# EAGLE library part NHD-3.5-320240MF (library Custom)
Newhaven TFT LCD display NHD-3.5-320240MF 3.5" 320x240 RGB
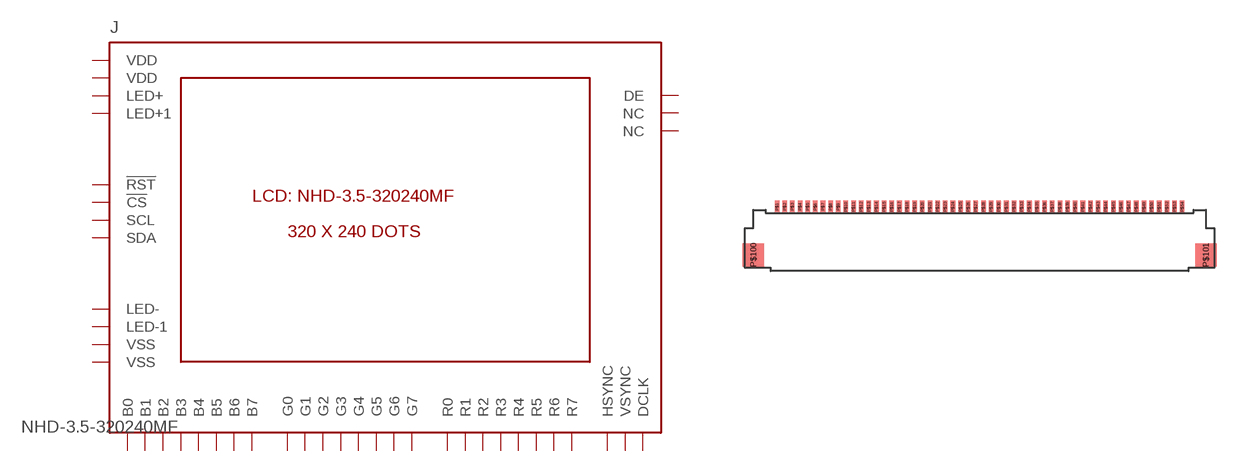
[diagram p4: symbol with the pads of MOLEX_51296-5494; footprint MOLEX_51296-5494]

Designator prefix J

## NHD-3.5-320240MF  [MOLEX_51296-5494]
P$1  LED-  pwr
P$2  LED-1  pwr
P$3  LED+  pwr
P$4  LED+1  pwr
P$8  !RST
P$9  !CS
P$10  SCL
P$11  SDA
P$12  B0
P$13  B1
P$14  B2
P$15  B3
P$16  B4
P$17  B5
P$18  B6
P$19  B7
P$20  G0
P$21  G1
P$22  G2
P$23  G3
P$24  G4
P$25  G5
P$26  G6
P$27  G7
P$28  R0
P$29  R1
P$30  R2
P$31  R3
P$32  R4
P$33  R5
P$34  R6
P$35  R7
P$36  HSYNC
P$37  VSYNC
P$38  DCLK
P$41  VDD  pwr
P$42  VDD  pwr
P$50  NC
P$51  NC
P$52  DE
P$53  VSS  pwr
P$54  VSS  pwr

## Footprint MOLEX_51296-5494 (pad centres in mm)
smd 0.3 x 0.8: P$1 -13.25,0.5; P$2 -12.75,0.5; P$3 -12.25,0.5; P$4 -11.75,0.5; P$5 -11.25,0.5; P$6 -10.75,0.5; P$7 -10.25,0.5; P$8 -9.75,0.5; P$9 -9.25,0.5; P$10 -8.75,0.5; P$11 -8.25,0.5; P$12 -7.75,0.5; P$13 -7.25,0.5; P$14 -6.75,0.5; P$15 -6.25,0.5; P$16 -5.75,0.5; P$17 -5.25,0.5; P$18 -4.75,0.5; P$19 -4.25,0.5; P$20 -3.75,0.5; P$21 -3.25,0.5; P$22 -2.75,0.5; P$23 -2.25,0.5; P$24 -1.75,0.5; P$25 -1.25,0.5; P$26 -0.75,0.5; P$27 -0.25,0.5; P$28 0.25,0.5; P$29 0.75,0.5; P$30 1.25,0.5; P$31 1.75,0.5; P$32 2.25,0.5; P$33 2.75,0.5; P$34 3.25,0.5; P$35 3.75,0.5; P$36 4.25,0.5; P$37 4.75,0.5; P$38 5.25,0.5; P$39 5.75,0.5; P$40 6.25,0.5; P$41 6.75,0.5; P$42 7.25,0.5; P$43 7.75,0.5; P$44 8.25,0.5; P$45 8.75,0.5; P$46 9.25,0.5; P$47 9.75,0.5; P$48 10.25,0.5; P$49 10.75,0.5; P$50 11.25,0.5; P$51 11.75,0.5; P$52 12.25,0.5; P$53 12.75,0.5; P$54 13.25,0.5
smd 1.4 x 1.5: P$100 -14.8,-2.65; P$101 14.8,-2.65